# Altium footprint library HDRV6W66P254_6X1_1524X249H838.PcbLib: 1 footprints
Each footprint in its own frame and in the unit in brackets; x right, y up, seen from the top. Pads: shape width x height; smd on the part's side, far side on the other; paste and mask are expansions set on the pad; w line width, h text height; cw(c..) or ccw(c..) is an arc to the next point about the centre after c.
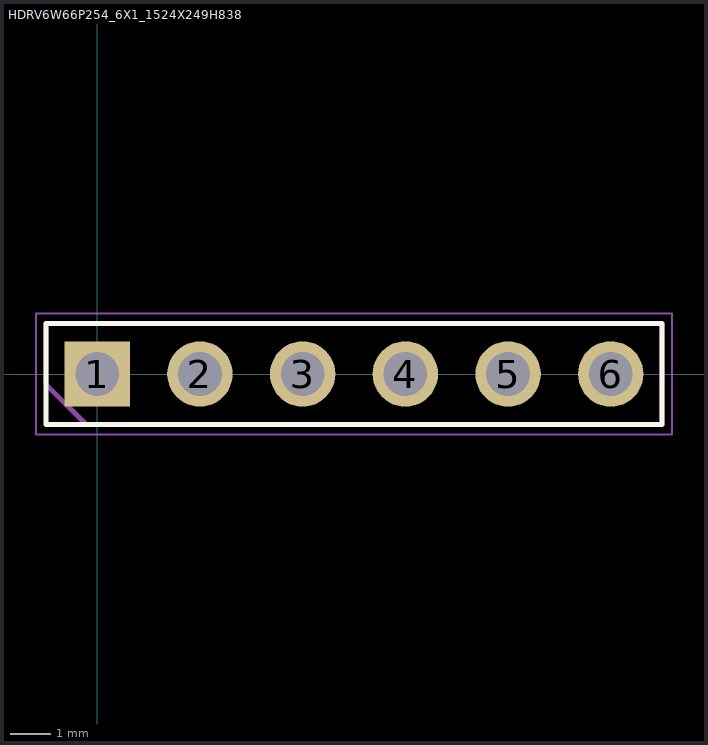
[diagram p0: the footprint, top view; thin cyan lines are the x and y axes]

## HDRV6W66P254_6X1_1524X249H838 [mm] "Header, Vertical, 2.54 mm pitch; 0.66 mm lead width, 6 pins, 1 row, 6 pins per row, 15.24 mm L X 2.49 mm W X 8.38 mm H body"
height 8.38
pads (6):
  rect 1.62x1.62 / inner round 1.62 / far side rect 1.62x1.62 hole 1.08 paste-1.62: 1(0,0)
  round 1.62 hole 1.08 paste-1.62: 2(2.54,0) 3(5.08,0) 4(7.62,0) 5(10.16,0) 6(12.7,0)
Top Overlay:
  lines w0.12: -1.27,-1.25 -1.27,1.25 13.97,1.25 13.97,-1.25 -1.27,-1.25
Mechanical 3:
  lines w0.12: -1.27,-0.254 -0.274,-1.25 13.97,-1.25 13.97,1.25 -1.27,1.25 -1.27,-0.254
Mechanical 5:
  lines w0.025: -1.27,-1.245 -1.27,1.245 13.97,1.245 13.97,-1.245 -1.27,-1.245 ; -0.33,-0.33 -0.33,0.33 0.33,0.33 0.33,-0.33 -0.33,-0.33 ; 2.21,-0.33 2.21,0.33 2.87,0.33 2.87,-0.33 2.21,-0.33 ; 4.75,-0.33 4.75,0.33 5.41,0.33 5.41,-0.33 4.75,-0.33 ; 7.29,-0.33 7.29,0.33 7.95,0.33 7.95,-0.33 7.29,-0.33 ; 9.83,-0.33 9.83,0.33 10.49,0.33 10.49,-0.33 9.83,-0.33 ; 12.37,-0.33 12.37,0.33 13.03,0.33 13.03,-0.33 12.37,-0.33
Mechanical 7:
  circle w0.05: c0,0 r0.25
  lines w0.05: -0.35,0 0.35,0 ; 0,-0.35 0,0.35 ; -1.52,-1.5 -1.52,1.5 14.22,1.5 14.22,-1.5 -1.52,-1.5
Mechanical 9:
  text "'.Designator'" at 0.127,-3.048 h1
3D body "HDRV6W66P254_6X1_1524X249H838.STEP": height 8.38, standoff -2, extent -1.27,-1.245 13.97,1.245
3D body: height 1.04, standoff 0, extent -1.52,-1.5 14.22,1.5